# Altium schematic symbol library OPA2134PA.SchLib: 1 symbol
Pins are listed as number, name and electrical type; pins without a type are passive.

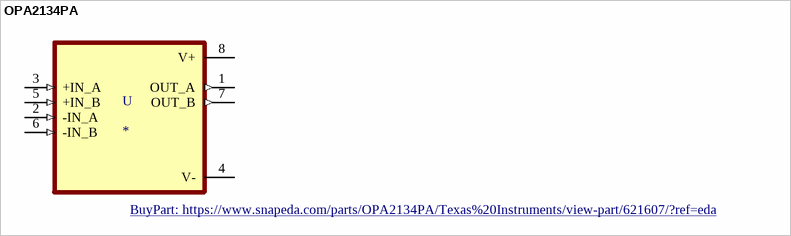
[diagram p0: symbol OPA2134PA]

## OPA2134PA
designator U
SoundPlus&trade; Audio Operational Amplifier with Low Distortion, Low Noise and Precision 8-PDIP -40 to 85; MP: OPA2134PA; MF: Texas Instruments; Price: None; SnapEDA_Link: https://www.snapeda.com/parts/OPA2134PA/Texas%20Instruments/view-part/621607/?ref=snap; Availability: Unavailable; Texas_Instruments-Purchase-URL: https://snapeda.com/shop?store=Texas+Instruments&id=621607; Value: *; Package: PDIP-8 Texas Instruments; BuyPart: https://www.snapeda.com/parts/OPA2134PA/Texas%20Instruments/view-part/621607/?ref=eda
footprint DIP794W45P254L959H508Q8
pins: 1 OUT_A (out), 2 -IN_A (in), 3 +IN_A (in), 4 V- (power), 5 +IN_B (in), 6 -IN_B (in), 7 OUT_B (out), 8 V+ (power)